# Altium footprint library PUSB3AB6Z.PcbLib: 1 footprints
Each footprint in its own frame and in the unit in brackets; x right, y up, seen from the top. Pads: shape width x height; smd on the part's side, far side on the other; paste and mask are expansions set on the pad; w line width, h text height; cw(c..) or ccw(c..) is an arc to the next point about the centre after c.
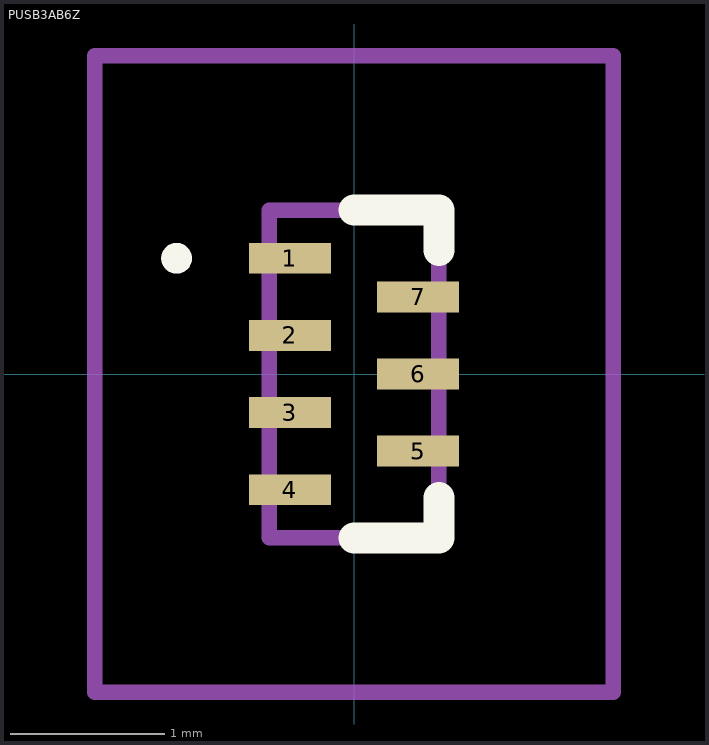
[diagram p0: the footprint, top view; thin cyan lines are the x and y axes]

## PUSB3AB6Z [mm]
pads (7):
  rect 0.53x0.2 smd: 1(-0.415,0.75) 2(-0.415,0.25) 3(-0.415,-0.25) 4(-0.415,-0.75) 5(0.415,-0.5) 6(0.415,0) 7(0.415,0.5)
Top Overlay:
  lines w0.1: -1.2,0.75 -1.2,0.75 ; -1.2,0.75 ccw(c-1.15,0.75) -1.1,0.75 ; -1.2,0.75 cw(c-1.15,0.75) -1.1,0.75 ; -1.1,0.75 -1.1,0.75
  lines w0.2: 0,-1.063 0.55,-1.063 0.55,-0.8 ; 0,1.063 0.55,1.063 0.55,0.8
Mechanical 15:
  lines w0.1: -0.55,-1.063 0.55,-1.063 0.55,1.063 -0.55,1.063 -0.55,-1.063
Mechanical 20:
  lines w0.1: -1.68,-2.063 1.68,-2.063 1.68,2.063 -1.68,2.063 -1.68,-2.063